# EAGLE library part 750311525 (library Midcom Inc - EAGLE Lib V2-0)
Package Style: EE13/6/6 Mounting: THT Pins: 9 pins Bobbin: 070-2863 Best pinouts for production vary per application. Please contact Wurth Electronics Midcom, Inc. for assistance with your custom design. Website: Wurth Electronics Midcom <http://www.we-online.com/midcom> Contact us Wurth Electronics Midcom, Inc. 121 Airport Dr. Watertown, SD 57201 Phone: (605) 886-4385 Fax: (605) 886-4486 E-Mail: midcom@we-online.com
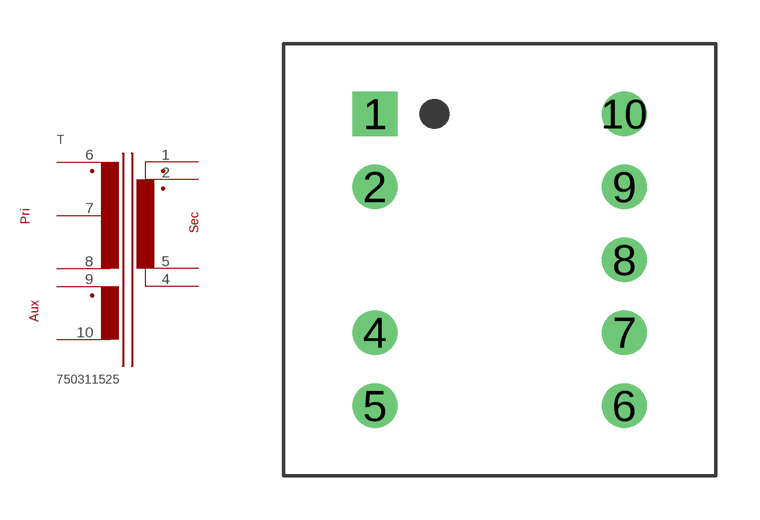
[diagram p350: symbol with the pads of EE13/6/6_THT_V_9PIN_(2863); footprint EE13/6/6_THT_V_9PIN_(2863)]

Designator prefix T

## 750311525  [EE13/6/6_THT_V_9PIN_(2863)]
1  1  pas
2  2  pas
4  4  pas
5  5  pas
6  6  pas
7  7  pas
8  8  pas
9  9  pas
10  10  pas

## Footprint EE13/6/6_THT_V_9PIN_(2863) (pad centres in mm)
Package Style: EE13/6/6 Mounting: THT Pins: 10 Bobbin: 070-2863
drill 1.016 square: 1 -4.255,4.978
drill 1.016: 2 -4.255,2.489; 4 -4.255,-2.489; 5 -4.255,-4.978; 6 4.255,-4.978; 7 4.255,-2.489; 8 4.255,0; 9 4.255,2.489; 10 4.255,4.978